# EAGLE library part DOOBA_IONODE (library dooba)
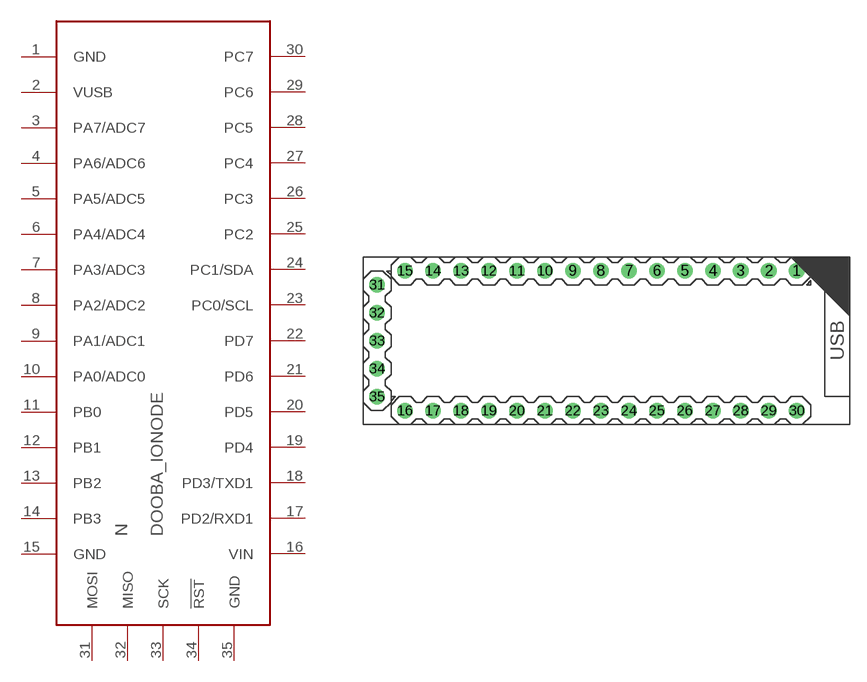
[diagram p30: symbol with the pads of DOOBA_IONODE; footprint DOOBA_IONODE]

Designator prefix N

## DOOBA_IONODE  [DOOBA_IONODE]
1  GND
2  VUSB
3  PA7/ADC7
4  PA6/ADC6
5  PA5/ADC5
6  PA4/ADC4
7  PA3/ADC3
8  PA2/ADC2
9  PA1/ADC1
10  PA0/ADC0
11  PB0
12  PB1
13  PB2
14  PB3
15  GND
16  VIN
17  PD2/RXD1
18  PD3/TXD1
19  PD4
20  PD5
21  PD6
22  PD7
23  PC0/SCL
24  PC1/SDA
25  PC2
26  PC3
27  PC4
28  PC5
29  PC6
30  PC7
31  MOSI
32  MISO
33  SCK
34  !RST
35  GND

## Footprint DOOBA_IONODE (pad centres in mm)
drill 0.8 pad 1.422: 1 16.51,6.35; 2 13.97,6.35; 3 11.43,6.35; 4 8.89,6.35; 5 6.35,6.35; 6 3.81,6.35; 7 1.27,6.35; 8 -1.27,6.35; 9 -3.81,6.35; 10 -6.35,6.35; 11 -8.89,6.35; 12 -11.43,6.35; 13 -13.97,6.35; 14 -16.51,6.35; 15 -19.05,6.35; 16 -19.05,-6.35; 17 -16.51,-6.35; 18 -13.97,-6.35; 19 -11.43,-6.35; 20 -8.89,-6.35; 21 -6.35,-6.35; 22 -3.81,-6.35; 23 -1.27,-6.35; 24 1.27,-6.35; 25 3.81,-6.35; 26 6.35,-6.35; 27 8.89,-6.35; 28 11.43,-6.35; 29 13.97,-6.35; 30 16.51,-6.35; 31 -21.59,5.08; 32 -21.59,2.54; 33 -21.59,0; 34 -21.59,-2.54; 35 -21.59,-5.08